# Altium footprint library PcbLib1.PcbLib: 12 footprints
Each footprint in its own frame and in the unit in brackets; x right, y up, seen from the top. Pads: shape width x height; smd on the part's side, far side on the other; paste and mask are expansions set on the pad; w line width, h text height; cw(c..) or ccw(c..) is an arc to the next point about the centre after c.
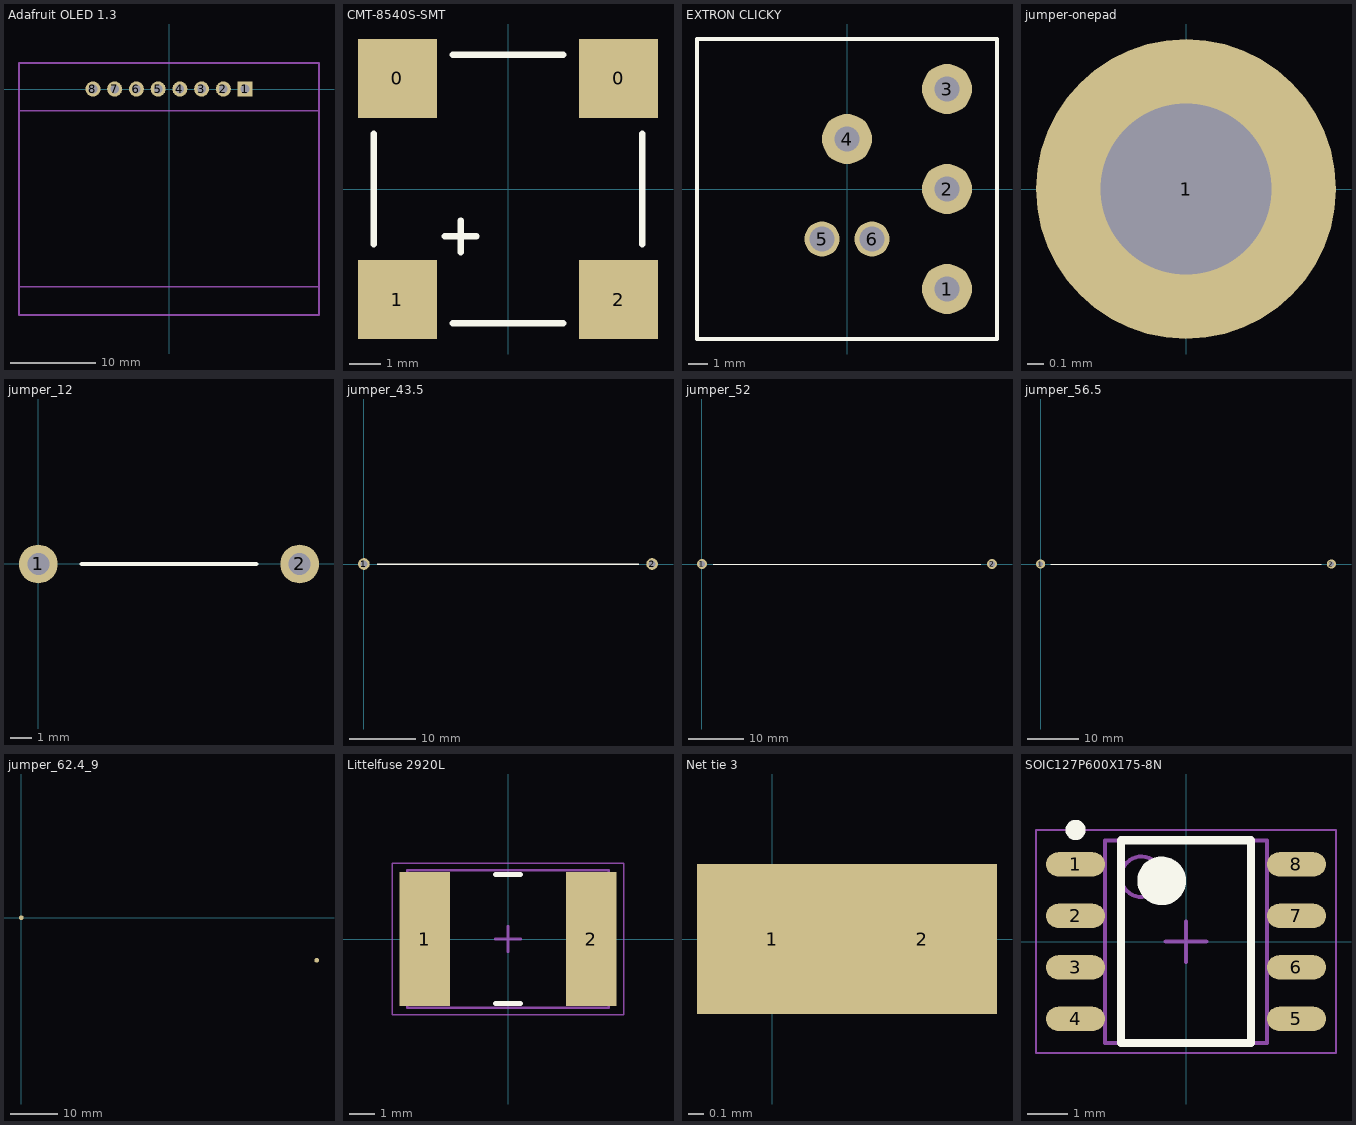
[diagram p0: the footprints below, top view; thin cyan lines are the x and y axes]

## Adafruit OLED 1.3 [mil]
pads (8):
  rect 70x70 hole 40: 1(350,0)
  round 70 hole 40: 2(250,0) 3(150,0) 4(50,0) 5(-50,0) 6(-150,0) 7(-250,0) 8(-350,0)
Mechanical 1:
  lines w7.87: -690,-910 690,-910 ; -690,-100 690,-100 ; -690,-1040 690,-1040 690,120 -690,120 -690,-1040

## CMT-8540S-SMT [mm]
pads (4):
  rect 2.5x2.5 smd: 0(-3.5,3.5) 0(3.5,3.5) 1(-3.5,-3.5) 2(3.5,-3.5)
Top Overlay:
  lines w0.2: -4.25,-1.75 -4.25,1.75 ; -2,-1.5 -1,-1.5 ; -1.75,-4.25 1.75,-4.25 ; -1.75,4.25 1.75,4.25 ; -1.5,-2 -1.5,-1 ; 4.25,-1.75 4.25,1.75

## EXTRON CLICKY [mil]
pads (6):
  round 100 hole 50: 1(200,-200) 2(200,0) 3(200,200) 4(0,100)
  round 70 hole 50: 5(-50,-100) 6(50,-100)
Top Overlay:
  lines w7.87: -300,-300 300,-300 300,0 300,300 -300,300 -300,-300
3D body "UB215SKW036CF-1JB.stp": height 732.13, standoff -153.87, extent -298.89,-299.99 301.11,300.01

## jumper-onepad [mil]
pads (1):
  round 70 hole 40: 1(0,0)

## jumper_12 [mil]
pads (2):
  round 70 hole 40: 1(0,0) 2(472.44,0)
Top Overlay:
  lines w7.87: 78.74,0 393.7,0

## jumper_43.5 [mil]
pads (2):
  round 70 hole 40: 1(0,0) 2(1712.6,0)
Top Overlay:
  lines w7.87: 78.74,0 1633.86,0

## jumper_52 [mil]
pads (2):
  round 70 hole 40: 1(0,0) 2(2047.24,0)
Top Overlay:
  lines w7.87: 78.74,0 1968.5,0

## jumper_56.5 [mil]
pads (2):
  round 70 hole 40: 1(0,0) 2(2224.41,0)
Top Overlay:
  lines w7.87: 78.74,0 2145.67,0

## jumper_62.4_9 [mm]
pads (2):
  round 1 smd: 1(0,0) 2(62.4,-9)

## Littelfuse 2920L [mm]
height 1.6
pads (2):
  rect 2x5.3 smd: 1(-3.3,0) 2(3.3,0)
Top Overlay:
  lines w0.2: -0.5,-2.55 0.5,-2.55 ; -0.5,2.55 0.5,2.55
Mechanical 13:
  lines w0.1: -3.99,-2.72 3.99,-2.72 3.99,2.72 -3.99,2.72 -3.99,-2.72
Mechanical 15:
  lines w0.05: -4.6,-3 4.6,-3 4.6,3 -4.6,3 -4.6,-3
  lines w0.1: -0.5,0 0.5,0 ; 0,-0.5 0,0.5
3D body "Littelfuse 2920L.step": height 1.6, standoff 0, extent -3.99,-2.72 3.99,2.72

## Net tie 3 [mm]
pads (2):
  rect 1x1 smd: 1(0,0) 2(1,0)
Top Layer:
  rectangle: 0.4,-0.1 0.6,0.1

## SOIC127P600X175-8N [mm] "SOIC, 8-Leads, Body 4.91x3.90mm, Pitch 1.27mm, IPC Medium Density"
height 1.75
pads (8):
  oval 1.45x0.6 smd: 1(-2.725,1.905) 2(-2.725,0.635) 3(-2.725,-0.635) 4(-2.725,-1.905) 5(2.725,-1.905) 6(2.725,-0.635) 7(2.725,0.635) 8(2.725,1.905)
Top Overlay:
  circle w0.25: c-2.725,2.755 r0.125
  circle w0.6: c-0.6,1.5 r0.3
  lines w0.2: -1.6,-2.5 -1.6,2.5 1.6,2.5 1.6,-2.5 -1.6,-2.5
Mechanical 13:
  circle w0.1: c-1.1,1.6 r0.5
  lines w0.1: -2,-2.5 -2,2.5 2,2.5 2,-2.5 -2,-2.5
Mechanical 15:
  lines w0.05: -3.7,-2.75 -3.7,2.75 3.7,2.75 3.7,-2.75 -3.7,-2.75
  lines w0.1: -0.5,0 0.5,0 ; 0,-0.5 0,0.5
3D body "SOIC127P600X175-8N.step": height 1.75, standoff 0, extent -2.997,-2.5 2.997,2.5